# EAGLE library part FM1808B-SG (library SamacSys_Parts)
F-RAM 256Kb 70ns 32K x 8 Parallel FRAM Source: Datasheet <https://datasheet.datasheetarchive.com/originals/dk/DKDS-12/238127.pdf>
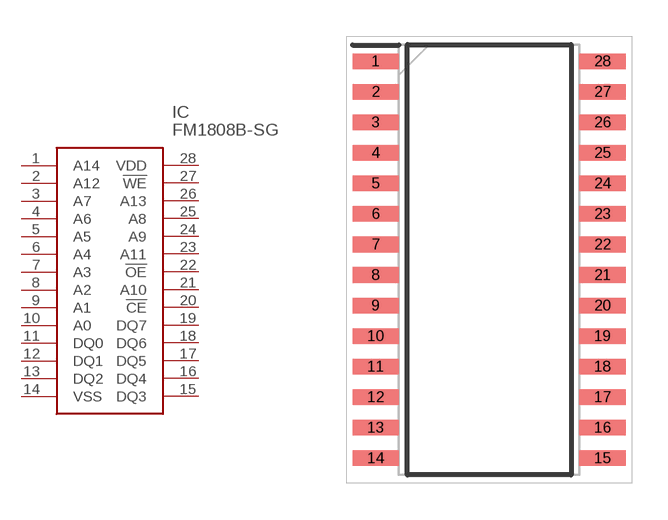
[diagram p157: symbol with the pads of SOIC127P1032X267-28N; footprint SOIC127P1032X267-28N]

Designator prefix IC

## FM1808B-SG (DESCRIPTION: F-RAM 256Kb 70ns 32K x 8 Parallel FRAM; HEIGHT: 2.67mm; MANUFACTURER_NAME: Cypress Semiconductor; MANUFACTURER_PART_NUMBER: FM1808B-SG; MOUSER_PART_NUMBER: 877-FM1808B-SG; MOUSER_PRICE-STOCK: https://www.mouser.co.uk/ProductDetail/Cypress-Semiconductor/FM1808B-SG?qs=pA5MXup5wxF7JoL8IkvLwQ%3D%3D)  [SOIC127P1032X267-28N]
1  A14
2  A12
3  A7
4  A6
5  A5
6  A4
7  A3
8  A2
9  A1
10  A0
11  DQ0
12  DQ1
13  DQ2
14  VSS
15  DQ3
16  DQ4
17  DQ5
18  DQ6
19  DQ7
20  !CE
21  A10
22  !OE
23  A11
24  A9
25  A8
26  A13
27  !WE
28  VDD

## Footprint SOIC127P1032X267-28N (pad centres in mm)
28 pin SOIC S21
smd 1.922 x 0.65: 1 -4.714,8.255; 2 -4.714,6.985; 3 -4.714,5.715; 4 -4.714,4.445; 5 -4.714,3.175; 6 -4.714,1.905; 7 -4.714,0.635; 8 -4.714,-0.635; 9 -4.714,-1.905; 10 -4.714,-3.175; 11 -4.714,-4.445; 12 -4.714,-5.715; 13 -4.714,-6.985; 14 -4.714,-8.255; 15 4.714,-8.255; 16 4.714,-6.985; 17 4.714,-5.715; 18 4.714,-4.445; 19 4.714,-3.175; 20 4.714,-1.905; 21 4.714,-0.635; 22 4.714,0.635; 23 4.714,1.905; 24 4.714,3.175; 25 4.714,4.445; 26 4.714,5.715; 27 4.714,6.985; 28 4.714,8.255